# Altium integrated library EE490.IntLib: 63 symbols
Pins are listed as number, name and electrical type; pins without a type are passive.

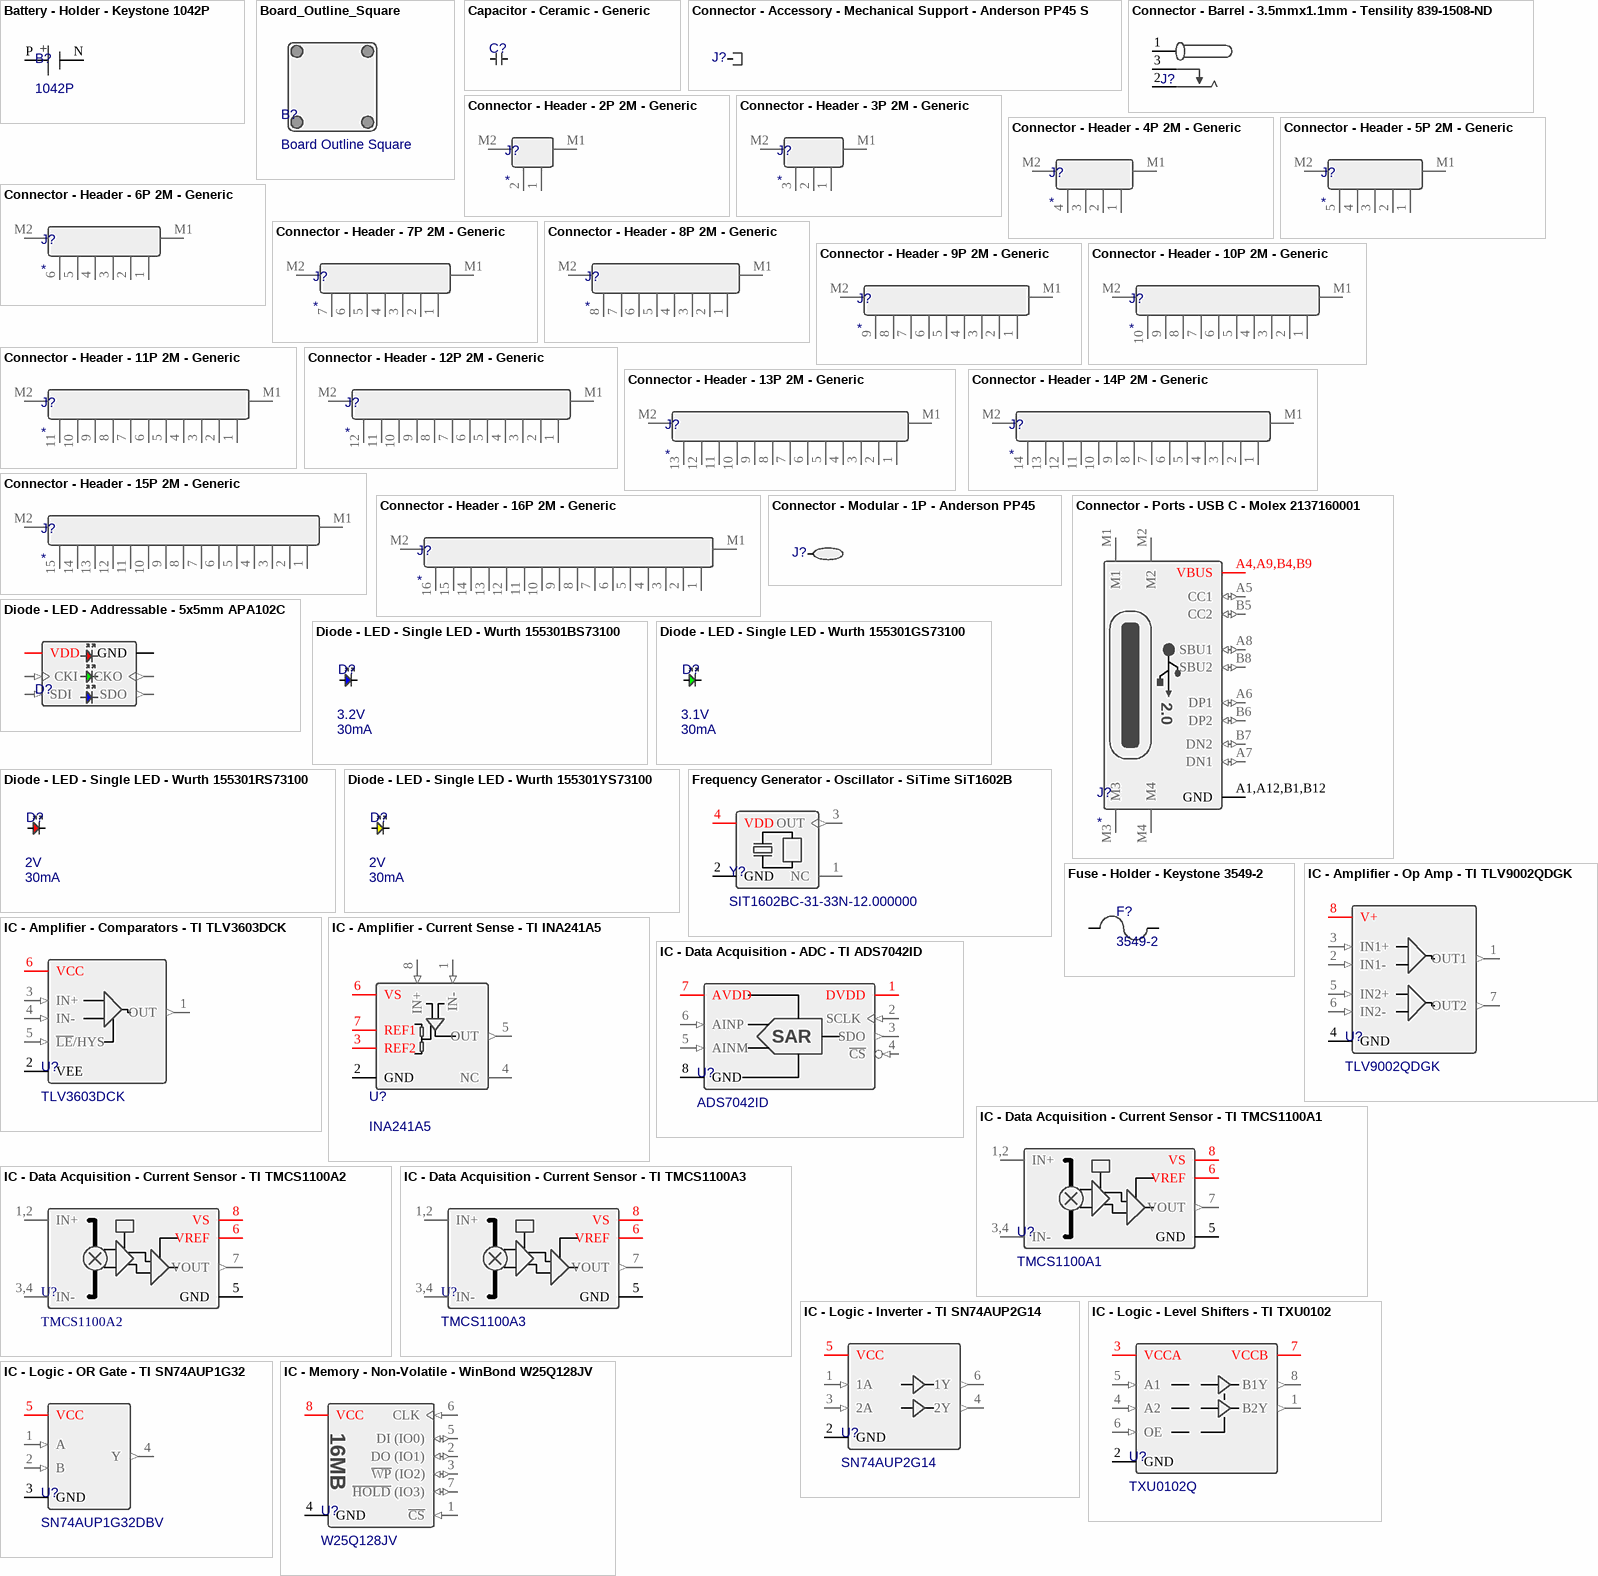
[diagram p0: symbols Battery - Holder - Keystone 1042P to IC - Memory - Non-Volatile - WinBond W25Q128JV]

## Battery - Holder - Keystone 1042P
designator B?, comment 1042P
Supplier 1: Digi-Key; Supplier Part Number 1: 36-1042P-ND; Supplier 2: Mouser; Supplier Part Number 2: 534-1042P
footprint BATTERY_HOLDER_KEYSTONE_1042P
pins: N, P
text: +

## Board_Outline_Square
designator B?, comment Board Outline Square
footprint PCB_OUTLINE_SQUARE

## Capacitor - Ceramic - Generic
designator C?  (value not drawn)
pins: 1, 2

## Connector - Accessory - Mechanical Support - Anderson PP45 Staple
designator J?, comment PP45 Staple  (value not drawn)
footprint CONNECTOR_ACCESSORY_PP45-STAPLE_ANDERSON
pins: 1

## Connector - Barrel - 3.5mmx1.1mm - Tensility 839-1508-ND
designator J?, comment 839-1508-ND  (value not drawn)
Supplier 1: Digi-Key; Supplier Part Number 1: 839-1508-ND
footprint CONNECTOR_BARREL_TENSILITY_839-1508-ND
pins: 1, 2, 3

## Connector - Header - 2P 2M - Generic
designator J?
pins: 1 0, 2 0, M1 1, M2 1

## Connector - Header - 3P 2M - Generic
designator J?
pins: 1 0, 2 0, 3 0, M1 1, M2 1

## Connector - Header - 4P 2M - Generic
designator J?
pins: 1 0, 2 0, 3 0, 4 0, M1 1, M2 1

## Connector - Header - 5P 2M - Generic
designator J?
pins: 1 0, 2 0, 3 0, 4 0, 5 0, M1 1, M2 1

## Connector - Header - 6P 2M - Generic
designator J?
pins: 1 0, 2 0, 3 0, 4 0, 5 0, 6 0, M1 1, M2 1

## Connector - Header - 7P 2M - Generic
designator J?
pins: 1 0, 2 0, 3 0, 4 0, 5 0, 6 0, 7 0, M1 1, M2 1

## Connector - Header - 8P 2M - Generic
designator J?
pins: 1 0, 2 0, 3 0, 4 0, 5 0, 6 0, 7 0, 8 0, M1 1, M2 1

## Connector - Header - 9P 2M - Generic
designator J?
pins: 1 0, 2 0, 3 0, 4 0, 5 0, 6 0, 7 0, 8 0, 9 0, M1 1, M2 1

## Connector - Header - 10P 2M - Generic
designator J?
pins: 1 0, 2 0, 3 0, 4 0, 5 0, 6 0, 7 0, 8 0, 9 0, 10 0, M1 1, M2 1

## Connector - Header - 11P 2M - Generic
designator J?
pins: 1 0, 2 0, 3 0, 4 0, 5 0, 6 0, 7 0, 8 0, 9 0, 10 0, 11 0, M1 1, M2 1

## Connector - Header - 12P 2M - Generic
designator J?
pins: 1 0, 2 0, 3 0, 4 0, 5 0, 6 0, 7 0, 8 0, 9 0, 10 0, 11 0, 12 0, M1 1, M2 1

## Connector - Header - 13P 2M - Generic
designator J?
pins: 1 0, 2 0, 3 0, 4 0, 5 0, 6 0, 7 0, 8 0, 9 0, 10 0, 11 0, 12 0, 13 0, M1 1, M2 1

## Connector - Header - 14P 2M - Generic
designator J?
pins: 1 0, 2 0, 3 0, 4 0, 5 0, 6 0, 7 0, 8 0, 9 0, 10 0, 11 0, 12 0, 13 0, 14 0, M1 1, M2 1

## Connector - Header - 15P 2M - Generic
designator J?
pins: 1 0, 2 0, 3 0, 4 0, 5 0, 6 0, 7 0, 8 0, 9 0, 10 0, 11 0, 12 0, 13 0, 14 0, 15 0, M1 1, M2 1

## Connector - Header - 16P 2M - Generic
designator J?
pins: 1 0, 2 0, 3 0, 4 0, 5 0, 6 0, 7 0, 8 0, 9 0, 10 0, 11 0, 12 0, 13 0, 14 0, 15 0, 16 0, M1 1, M2 1

## Connector - Modular - 1P - Anderson PP45
designator J?, comment PP45  (value not drawn)
footprint CONNECTOR_BTOC_PP45_ANDERSON
pins: 1

## Connector - Ports - USB C - Molex 2137160001
designator J?
Supplier 1: Mouser; Supplier Part Number 1: 538-213716-0001; Supplier 2: Newark; Supplier Part Number 2: 13AJ2447; Supplier 3: Avnet; Supplier Part Number 3: 13AJ2447; Supplier 4: Farnell; Supplier Part Number 4: 3648629
footprint CONN_PORT_USB-C_MOLEX-2137160001
pins: A1,A12,B1,B12 GND (power), A4,A9,B4,B9 VBUS (power), A5 CC1 (io), A6 DP1 (io), A7 DN1 (io), A8 SBU1 (io), B5 CC2 (io), B6 DP2 (io), B7 DN2 (io), B8 SBU2 (io), M1 (power), M2 (power), M3 (power), M4 (power)
text: 2.0

## Diode - LED - Addressable - 5x5mm APA102C
designator D?, comment APA102C  (value not drawn)
Supplier 1: Digi-Key; Supplier Part Number 1: 1568-COM-16345-ND; Supplier 2: Mouser; Supplier Part Number 2: 474-COM-16345
footprint 5X5MM(6PIN)_JLEAD_GENERIC
pins: 1 SDI (in), 2 CKI (in), 3 GND (power), 4 VDD (power), 5 CKO (out), 6 SDO (out)

## Diode - LED - Single LED - Wurth 155301BS73100
designator D?, comment Current - Max: 30mA  Forward Voltage: 3.2V  (hidden comment: 155301BS73100)
simulation model SMSW_3014_155301BS73100 (Model Description)
footprint WL-SMSW_3014_WURTH
pins: 1 C, 2 A

## Diode - LED - Single LED - Wurth 155301GS73100
designator D?, comment Current - Max: 30mA  Forward Voltage: 3.1V  (hidden comment: 155301GS73100)
Supplier 1: Digi-Key; Supplier Part Number 1: 732-155301GS73100CT-ND; Supplier 2: Digi-Key; Supplier Part Number 2: 732-155301GS73100DKR-ND; Supplier 3: Mouser; Supplier Part Number 3: 710-155301GS73100
simulation model SMSW_3014_155301BS73100 (Model Description)
footprint WL-SMSW_3014_WURTH
pins: 1 C, 2 A

## Diode - LED - Single LED - Wurth 155301RS73100
designator D?, comment Current - Max: 30mA  Forward Voltage: 2V  (hidden comment: 155301RS73100)
Supplier 1: Digi-Key; Supplier Part Number 1: 732-155301RS73100CT-ND; Supplier 2: Digi-Key; Supplier Part Number 2: 732-155301RS73100DKR-ND; Supplier 3: Mouser; Supplier Part Number 3: 710-155301RS73100
simulation model SMSW_3014_155301BS73100 (Model Description)
footprint WL-SMSW_3014_WURTH
pins: 1 C, 2 A

## Diode - LED - Single LED - Wurth 155301YS73100
designator D?, comment Current - Max: 30mA  Forward Voltage: 2V  (hidden comment: 155301YS73100)
Supplier 1: Digi-Key; Supplier Part Number 1: 732-155301YS73100CT-ND; Supplier 2: Digi-Key; Supplier Part Number 2: 732-155301YS73100DKR-ND; Supplier 3: Mouser; Supplier Part Number 3: 710-155301YS73100
simulation model SMSW_3014_155301BS73100 (Model Description)
footprint WL-SMSW_3014_WURTH
pins: 1 C, 2 A

## Frequency Generator - Oscillator - SiTime SiT1602B
designator Y?, comment SIT1602BC-31-33N-12.000000
pins: 1 NC, 2 GND (power), 3 OUT (out), 4 VDD (power)

## Fuse - Holder - Keystone 3549-2
designator F?, comment 3549-2
Supplier 1: Digi-Key; Supplier Part Number 1: 36-3549-2-ND; Supplier 2: Mouser; Supplier Part Number 2: 534-3549-2
footprint FUSE_HOLDER_KEYSTONE_3549-2
pins: 1, 2

## IC - Amplifier - Comparators - TI TLV3603DCK
designator U?, comment TLV3603DCK
Supplier 1: Mouser; Supplier Part Number 1: 595-TLV3603DCKR; Supplier 2: Texas Instruments; Supplier Part Number 2: TLV3603DCKR; Supplier 3: Digi-Key; Supplier Part Number 3: 296-TLV3603DCKRCT-ND; Supplier 4: Digi-Key; Supplier Part Number 4: 296-TLV3603DCKRDKR-ND; Supplier 5: Mouser; Supplier Part Number 5: 595-TLV3603DCKT; Supplier 6: Texas Instruments; Supplier Part Number 6: TLV3603DCKT; Supplier 7: Digi-Key; Supplier Part Number 7: 296-TLV3603DCKTCT-ND; Supplier 8: Digi-Key; Supplier Part Number 8: 296-TLV3603DCKTDKR-ND
footprint SC70-6(DCK0006A)_TI
pins: 1 OUT (out), 2 VEE (power), 3 IN+ (in), 4 IN- (in), 5 ~{LE}/HYS (in), 6 VCC (power)

## IC - Amplifier - Current Sense - TI INA241A5
designator U?, comment INA241A5
Supplier 1: Texas Instruments; Supplier Part Number 1: INA241A5IDDFR; Supplier 2: Digi-Key; Supplier Part Number 2: 296-INA241A5IDDFRDKR-ND; Supplier 3: Digi-Key; Supplier Part Number 3: 296-INA241A5IDDFRCT-ND; Supplier 4: Mouser; Supplier Part Number 4: 595-INA241A5IDDFR
footprint SOT23-8(DDF0008A)_TI
pins: 1 IN- (in), 2 GND (power), 3 REF2 (power), 4 NC, 5 OUT (out), 6 VS (power), 7 REF1 (power), 8 IN+ (in)

## IC - Amplifier - Op Amp - TI TLV9002QDGK
designator U?, comment TLV9002QDGK
Supplier 1: Mouser; Supplier Part Number 1: 595-TLV9002QDGKRQ1; Supplier 2: Texas Instruments; Supplier Part Number 2: TLV9002QDGKRQ1; Supplier 3: Digi-Key; Supplier Part Number 3: 296-TLV9002QDGKRQ1CT-ND; Supplier 4: Digi-Key; Supplier Part Number 4: 296-TLV9002QDGKRQ1DKR-ND
footprint VSSOP-8(DGK0008A)_TI
pins: 1 OUT1 (out), 2 IN1- (in), 3 IN1+ (in), 4 GND (power), 5 IN2+ (in), 6 IN2- (in), 7 OUT2 (out), 8 V+ (power)

## IC - Data Acquisition - ADC - TI ADS7042ID
designator U?, comment ADS7042ID
Supplier 1: Mouser; Supplier Part Number 1: 595-ADS7042IDCUR; Supplier 2: Digi-Key; Supplier Part Number 2: 296-38532-1-ND; Supplier 3: Digi-Key; Supplier Part Number 3: 296-38532-6-ND; Supplier 4: Digi-Key; Supplier Part Number 4: 296-38532-2-ND; Supplier 5: Mouser; Supplier Part Number 5: 595-ADS7042IDCUT; Supplier 6: Arrow Electronics; Supplier Part Number 6: ADS7042IDCUT; Supplier 7: Digi-Key; Supplier Part Number 7: 296-38551-1-ND; Supplier 8: Digi-Key; Supplier Part Number 8: 296-38551-6-ND; Supplier 9: Digi-Key; Supplier Part Number 9: 296-38551-2-ND
footprint VSSOP-8(DCU0008A)_TI
ibis ADS7C00S (Model Description)
pins: 1 DVDD (power), 2 SCLK (in), 3 SDO (out), 4 ~{CS} (in), 5 AINM (in), 6 AINP (in), 7 AVDD (power), 8 GND (power)
text: SAR

## IC - Data Acquisition - Current Sensor - TI TMCS1100A1
designator U?, comment TMCS1100A1
Supplier 1: Mouser; Supplier Part Number 1: 595-TMCS1100A1QDRQ1; Supplier 2: Digi-Key; Supplier Part Number 2: 296-TMCS1100A1QDRQ1CT-ND; Supplier 3: Digi-Key; Supplier Part Number 3: 296-TMCS1100A1QDRQ1DKR-ND; Supplier 4: Texas Instruments; Supplier Part Number 4: TMCS1100A1QDRQ1; Supplier 5: Mouser; Supplier Part Number 5: 595-TMCS1100A1QDR; Supplier 6: Texas Instruments; Supplier Part Number 6: TMCS1100A1QDR; Supplier 7: Digi-Key; Supplier Part Number 7: 296-TMCS1100A1QDRCT-ND; Supplier 8: Digi-Key; Supplier Part Number 8: 296-TMCS1100A1QDRDKR-ND
footprint SOIC-8(D0008B)_TI
simulation model TMCS1100A1 (Model Description)
pins: 1,2 IN+ (power), 3,4 IN- (power), 5 GND (power), 6 VREF (power), 7 VOUT (out), 8 VS (power)

## IC - Data Acquisition - Current Sensor - TI TMCS1100A2
designator U?, comment TMCS1100A2
Supplier 1: Digi-Key; Supplier Part Number 1: 296-TMCS1100A2QDRQ1CT-ND; Supplier 2: Digi-Key; Supplier Part Number 2: 296-TMCS1100A2QDRQ1DKR-ND; Supplier 3: Texas Instruments; Supplier Part Number 3: TMCS1100A2QDRQ1; Supplier 4: Mouser; Supplier Part Number 4: 595-TMCS1100A2QDRQ1; Supplier 5: Mouser; Supplier Part Number 5: 595-TMCS1100A2QDR; Supplier 6: Texas Instruments; Supplier Part Number 6: TMCS1100A2QDR; Supplier 7: Digi-Key; Supplier Part Number 7: 296-TMCS1100A2QDRCT-ND; Supplier 8: Digi-Key; Supplier Part Number 8: 296-TMCS1100A2QDRDKR-ND
footprint SOIC-8(D0008B)_TI
simulation model TMCS1100A2 (Model Description)
pins: 1,2 IN+ (power), 3,4 IN- (power), 5 GND (power), 6 VREF (power), 7 VOUT (out), 8 VS (power)

## IC - Data Acquisition - Current Sensor - TI TMCS1100A3
designator U?, comment TMCS1100A3
footprint SOIC-8(D0008B)_TI
pins: 1,2 IN+ (power), 3,4 IN- (power), 5 GND (power), 6 VREF (power), 7 VOUT (out), 8 VS (power)

## IC - Logic - Inverter - TI SN74AUP2G14
designator U?, comment SN74AUP2G14
Supplier 1: Mouser; Supplier Part Number 1: 595-SN74AUP2G14DCKR; Supplier 2: Texas Instruments; Supplier Part Number 2: SN74AUP2G14DCKR; Supplier 3: Digi-Key; Supplier Part Number 3: 296-27361-1-ND; Supplier 4: Digi-Key; Supplier Part Number 4: 296-27361-6-ND
footprint SC70-6(DCK0006A)_TI
pins: 1 1A (in), 2 GND (power), 3 2A (in), 4 2Y (out), 5 VCC (power), 6 1Y (out)

## IC - Logic - Level Shifters - TI TXU0102
designator U?, comment TXU0102Q
Supplier 1: Mouser; Supplier Part Number 1: 595-TXU0102QDCURQ1; Supplier 2: Texas Instruments; Supplier Part Number 2: TXU0102QDCURQ1; Supplier 3: Digi-Key; Supplier Part Number 3: 296-TXU0102QDCURQ1CT-ND; Supplier 4: Digi-Key; Supplier Part Number 4: 296-TXU0102QDCURQ1DKR-ND
footprint VSSOP-8(DCU0008A)_TI
pins: 1 B2Y (out), 2 GND (power), 3 VCCA (power), 4 A2 (in), 5 A1 (in), 6 OE (in), 7 VCCB (power), 8 B1Y (out)

## IC - Logic - OR Gate - TI SN74AUP1G32
designator U?, comment SN74AUP1G32DBV
Supplier 1: Mouser; Supplier Part Number 1: 595-SN74AUP1G32DBVR; Supplier 2: Texas Instruments; Supplier Part Number 2: SN74AUP1G32DBVR; Supplier 3: Digi-Key; Supplier Part Number 3: 296-19079-1-ND; Supplier 4: Digi-Key; Supplier Part Number 4: 296-19079-6-ND; Supplier 5: Digi-Key; Supplier Part Number 5: 296-19079-2-ND
footprint SOT23-5(DBV0005A)_TI
pins: 1 A (in), 2 B (in), 3 GND (power), 4 Y (out), 5 VCC (power)

## IC - Memory - Non-Volatile - WinBond W25Q128JV
designator U?, comment W25Q128JV
Supplier 1: Digi-Key; Supplier Part Number 1: W25Q128JVPIQ-ND; Supplier 2: Arrow Electronics; Supplier Part Number 2: W25Q128JVPIQ TR; Supplier 3: Digi-Key; Supplier Part Number 3: W25Q128JVPIQCT-ND; Supplier 4: Digi-Key; Supplier Part Number 4: W25Q128JVPIQDKR-ND
footprint WSON-8(6x5mm)_WINBOND
pins: 1 ~{CS} (in), 2 DO (IO1) (io), 3 ~{WP} (IO2) (io), 4 GND (power), 5 DI (IO0) (io), 6 CLK (in), 7 ~{HOLD} (IO3) (io), 8 VCC (power)
text: 16MB

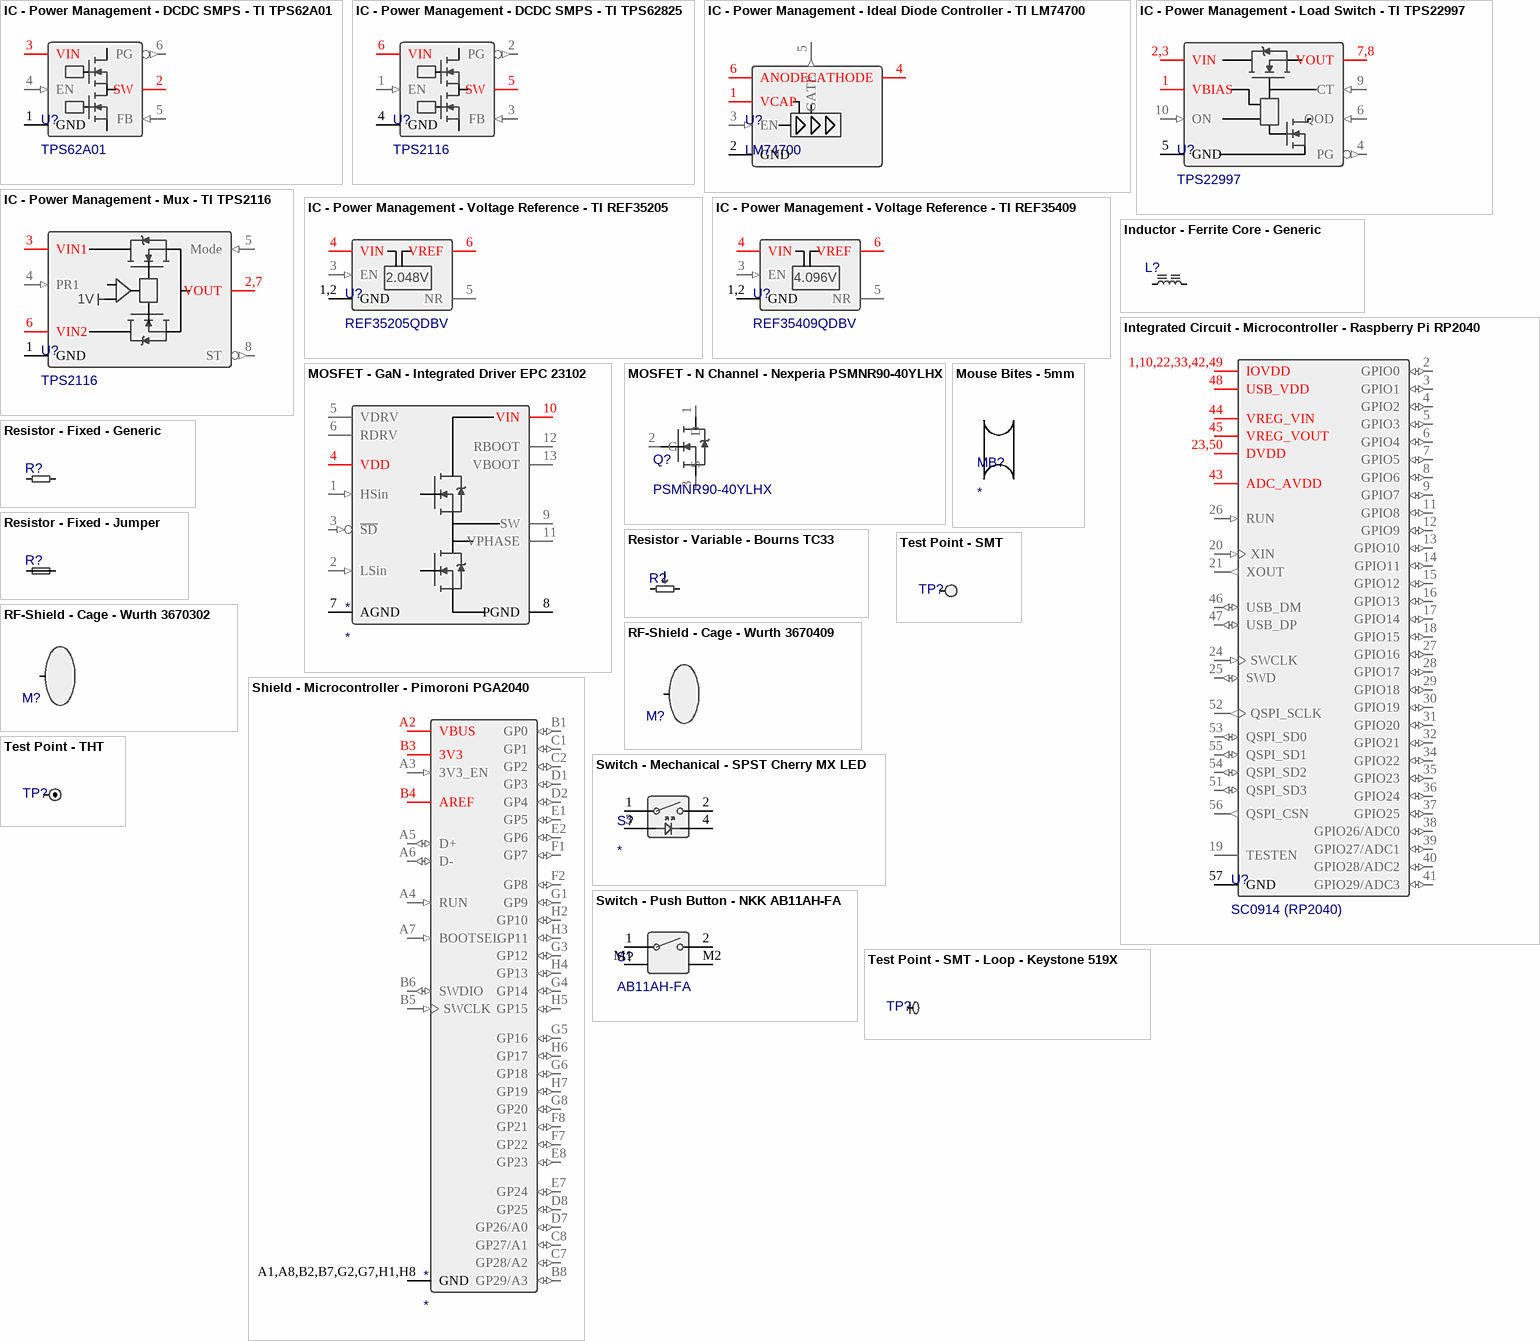
[diagram p1: symbols IC - Power Management - DCDC SMPS - TI TPS62A01 to Test Point - THT]

## IC - Power Management - DCDC SMPS - TI TPS62A01
designator U?, comment TPS62A01
Supplier 1: Mouser; Supplier Part Number 1: 595-TPS62A01DRLR; Supplier 2: Texas Instruments; Supplier Part Number 2: TPS62A01DRLR; Supplier 3: Digi-Key; Supplier Part Number 3: 296-TPS62A01DRLRCT-ND; Supplier 4: Digi-Key; Supplier Part Number 4: 296-TPS62A01DRLRDKR-ND
footprint SOT-563(DRL0006A)_TI
simulation model TPS62A02_TRANS (Model Description)
pins: 1 GND (power), 2 SW (power), 3 VIN (power), 4 EN (in), 5 FB (in), 6 PG (out)

## IC - Power Management - DCDC SMPS - TI TPS62825
designator U?, comment TPS2116
Supplier 1: Mouser; Supplier Part Number 1: 595-TPS62825DMQR; Supplier 2: Texas Instruments; Supplier Part Number 2: TPS62825DMQR; Supplier 3: Digi-Key; Supplier Part Number 3: 296-49521-1-ND; Supplier 4: Digi-Key; Supplier Part Number 4: 296-49521-6-ND; Supplier 5: Digi-Key; Supplier Part Number 5: 296-49521-2-ND
footprint VFDFN-6(DMQ0006A)_TI
simulation model TPS62825_TRANS (Model Description)
pins: 1 EN (in), 2 PG (out), 3 FB (in), 4 GND (power), 5 SW (power), 6 VIN (power)

## IC - Power Management - Ideal Diode Controller - TI LM74700
designator U?, comment LM74700
Supplier 1: Mouser; Supplier Part Number 1: 595-LM74700QDBVTQ1; Supplier 2: Texas Instruments; Supplier Part Number 2: LM74700QDBVTQ1; Supplier 3: Digi-Key; Supplier Part Number 3: 296-53420-1-ND; Supplier 4: Digi-Key; Supplier Part Number 4: 296-53420-6-ND
footprint SOT23-6(DBV0006A)_TI
pins: 1 VCAP (power), 2 GND (power), 3 EN (in), 4 CATHODE, 5 GATE (out), 6 ANODE (power)

## IC - Power Management - Load Switch - TI TPS22997
designator U?, comment TPS22997
Supplier 1: Mouser; Supplier Part Number 1: 595-TPS22997RYZR; Supplier 2: Texas Instruments; Supplier Part Number 2: TPS22997RYZR; Supplier 3: Digi-Key; Supplier Part Number 3: 296-TPS22997RYZRCT-ND; Supplier 4: Digi-Key; Supplier Part Number 4: 296-TPS22997RYZRDKR-ND
footprint WQFN-10(RYZ0010A)_TI
pins: 1 VBIAS (power), 2,3 VIN (power), 4 PG (out), 5 GND (power), 6 QOD (in), 7,8 VOUT (power), 9 CT (in), 10 ON (in)

## IC - Power Management - Mux - TI TPS2116
designator U?, comment TPS2116
Supplier 1: Mouser; Supplier Part Number 1: 595-TPS2116DRLR; Supplier 2: Texas Instruments; Supplier Part Number 2: TPS2116DRLR; Supplier 3: Digi-Key; Supplier Part Number 3: 296-TPS2116DRLRCT-ND; Supplier 4: Digi-Key; Supplier Part Number 4: 296-TPS2116DRLRDKR-ND
footprint SOT-583(DRL0008A)_TI
simulation model TPS2116_TRANS (Model Description)
pins: 1 GND (power), 2,7 VOUT (power), 3 VIN1 (power), 4 PR1 (in), 5 Mode (in), 6 VIN2 (power), 8 ST (out)
text: 1V

## IC - Power Management - Voltage Reference - TI REF35205
designator U?, comment REF35205QDBV
Supplier 1: Texas Instruments; Supplier Part Number 1: REF35205QDBVR; Supplier 2: Digi-Key; Supplier Part Number 2: 296-REF35205QDBVRCT-ND; Supplier 3: Digi-Key; Supplier Part Number 3: 296-REF35205QDBVRDKR-ND; Supplier 4: Mouser; Supplier Part Number 4: 595-REF35205QDBVR
footprint SOT23-6(DBV0006A)_TI
pins: 1,2 GND (power), 3 EN (in), 4 VIN (power), 5 NR, 6 VREF
text: 2.048V

## IC - Power Management - Voltage Reference - TI REF35409
designator U?, comment REF35409QDBV
Supplier 1: Texas Instruments; Supplier Part Number 1: REF35409QDBVR; Supplier 2: Digi-Key; Supplier Part Number 2: 296-REF35409QDBVRCT-ND; Supplier 3: Digi-Key; Supplier Part Number 3: 296-REF35409QDBVRDKR-ND; Supplier 4: Mouser; Supplier Part Number 4: 595-REF35409QDBVR
footprint SOT23-6(DBV0006A)_TI
pins: 1,2 GND (power), 3 EN (in), 4 VIN (power), 5 NR, 6 VREF
text: 4.096V

## Inductor - Ferrite Core - Generic
designator L?  (value not drawn)
pins: 1, 2

## Integrated Circuit - Microcontroller - Raspberry Pi RP2040
designator U?, comment SC0914 (RP2040)
Supplier 1: Digi-Key; Supplier Part Number 1: 2648-SC0914(7)CT-ND; Supplier 2: Digi-Key; Supplier Part Number 2: 2648-SC0914(7)DKR-ND; Supplier 3: Mouser; Supplier Part Number 3: 358-SC09147; Supplier 4: Digi-Key; Supplier Part Number 4: 2648-SC0914(13)CT-ND; Supplier 5: Digi-Key; Supplier Part Number 5: 2648-SC0914(13)DKR-ND; Supplier 6: Mouser; Supplier Part Number 6: 358-SC091413
footprint QFN-56(7x7)_RASPBERRYPI
pins: 1,10,22,33,42,49 IOVDD (power), 2 GPIO0 (io), 3 GPIO1 (io), 4 GPIO2 (io), 5 GPIO3 (io), 6 GPIO4 (io), 7 GPIO5 (io), 8 GPIO6 (io), 9 GPIO7 (io), 11 GPIO8 (io), 12 GPIO9 (io), 13 GPIO10 (io), 14 GPIO11 (io), 15 GPIO12 (io), 16 GPIO13 (io), 17 GPIO14 (io), 18 GPIO15 (io), 19 TESTEN, 20 XIN (in), 21 XOUT (out), 23,50 DVDD (power), 24 SWCLK (in), 25 SWD (io), 26 RUN (in), 27 GPIO16 (io), 28 GPIO17 (io), 29 GPIO18 (io), 30 GPIO19 (io), 31 GPIO20 (io), 32 GPIO21 (io), 34 GPIO22 (io), 35 GPIO23 (io), 36 GPIO24 (io), 37 GPIO25 (io), 38 GPIO26/ADC0 (io), 39 GPIO27/ADC1 (io), 40 GPIO28/ADC2 (io), 41 GPIO29/ADC3 (io), 43 ADC_AVDD (power), 44 VREG_VIN (power), 45 VREG_VOUT (power), 46 USB_DM (io), 47 USB_DP (io), 48 USB_VDD (power), 51 QSPI_SD3 (io), 52 QSPI_SCLK (out), 53 QSPI_SD0 (io), 54 QSPI_SD2 (io), 55 QSPI_SD1 (io), 56 QSPI_CSN (out), 57 GND (power)

## MOSFET - GaN - Integrated Driver EPC 23102
designator *
Supplier 1: Digi-Key; Supplier Part Number 1: 917-EPC23102ENGRTCT-ND; Supplier 2: Digi-Key; Supplier Part Number 2: 917-EPC23102ENGRTDKR-ND
footprint QFN-13_EPC_EPC2310X
simulation model epc23102 (Model Description)
pins: 1 HSin (in), 2 LSin (in), 3 ~{SD} (in), 4 VDD (power), 5 VDRV (power), 6 RDRV (power), 7 AGND (power), 8 PGND (power), 9 SW (power), 10 VIN (power), 11 VPHASE (power), 12 RBOOT (power), 13 VBOOT (power)

## MOSFET - N Channel - Nexperia PSMNR90-40YLHX
designator Q?, comment PSMNR90-40YLHX
Supplier 1: Digi-Key; Supplier Part Number 1: 1727-8710-1-ND; Supplier 2: Digi-Key; Supplier Part Number 2: 1727-8710-6-ND; Supplier 3: Mouser; Supplier Part Number 3: 771-PSMNR90-40YLHX
footprint SOT1023(LFPAK56E)_NEXPERIA
pins: 1 D (power), 2 G, 3 S (power)

## Mouse Bites - 5mm
designator MB?
footprint MOUSE_BITES

## Resistor - Fixed - Generic
designator R?  (value not drawn)
pins: 1, 2

## Resistor - Fixed - Jumper
designator R?  (value not drawn)  (net tie, no BOM)
pins: 1, 2

## Resistor - Variable - Bourns TC33
designator R?, comment TC33X  (value not drawn)
footprint RESISTOR_VARIABLE_TC33_BOURNS
pins: 1, 2, 3

## RF-Shield - Cage - Wurth 3670302
designator M?, comment 3670302  (value not drawn)
Supplier 1: Digi-Key; Supplier Part Number 1: 732-3670302-ND; Supplier 2: Mouser; Supplier Part Number 2: 710-3670302
footprint RFSHIELD_WURTH_3670302
pins: 1

## RF-Shield - Cage - Wurth 3670409
designator M?, comment 3670409  (value not drawn)
Supplier 1: Digi-Key; Supplier Part Number 1: 732-3670409-ND; Supplier 2: Mouser; Supplier Part Number 2: 710-3670409
footprint RFSHIELD_WURTH_3670409
pins: 1

## Shield - Microcontroller - Pimoroni PGA2040
designator *
Supplier 1: Digi-Key; Supplier Part Number 1: 1778-PIM577-ND; Supplier 2: Mouser; Supplier Part Number 2: 397-PIM577
footprint SHIELD_MICROCONTROLER_PIMORONI_PGA2040
pins: A1,A8,B2,B7,G2,G7,H1,H8 GND (power), A2 VBUS (power), A3 3V3_EN (in), A4 RUN (in), A5 D+ (io), A6 D- (io), A7 BOOTSEL (in), B1 GP0 (io), B3 3V3 (power), B4 AREF (power), B5 SWCLK (in), B6 SWDIO (io), B8 GP29/A3 (io), C1 GP1 (io), C2 GP2 (io), C7 GP28/A2 (io), C8 GP27/A1 (io), D1 GP3 (io), D2 GP4 (io), D7 GP26/A0 (io), D8 GP25 (io), E1 GP5 (io), E2 GP6 (io), E7 GP24 (io), E8 GP23 (io), F1 GP7 (io), F2 GP8 (io), F7 GP22 (io), F8 GP21 (io), G1 GP9 (io), G3 GP12 (io), G4 GP14 (io), G5 GP16 (io), G6 GP18 (io), G8 GP20 (io), H2 GP10 (io), H3 GP11 (io), H4 GP13 (io), H5 GP15 (io), H6 GP17 (io), H7 GP19 (io)

## Switch - Mechanical - SPST Cherry MX LED
designator S?
pins: 1, 2, 3 2, 4 3

## Switch - Push Button - NKK AB11AH-FA
designator S?, comment AB11AH-FA
Supplier 1: Digi-Key; Supplier Part Number 1: 360-2744-ND; Supplier 2: Mouser; Supplier Part Number 2: 633-AB11AH-FA
footprint SWITCH_PUSHBUTTON_NKK_AB11AH-FA
pins: 1, 2, M1 2, M2 3

## Test Point - SMT
designator TP?  (value not drawn)
footprint TESTPOINT_SMT_OCTAGON
pins: 1

## Test Point - SMT - Loop - Keystone 519X
designator TP?, comment 519XTR  (value not drawn)
footprint TESTPOINT_LOOP_SMD_KEYSTONE_519X
pins: 1

## Test Point - THT
designator TP?  (value not drawn)
footprint TESTPOINT_THT_OCTAGON
pins: 1